# Altium schematic symbol library NEXPERIA_IP4234CZ6.SchLib: 1 symbol
Pins are listed as number, name and electrical type; pins without a type are passive.

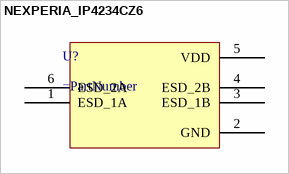
[diagram p0: symbol NEXPERIA_IP4234CZ6]

## NEXPERIA_IP4234CZ6
designator U?
pins: 1 ESD_1A, 2 GND, 3 ESD_1B, 4 ESD_2B, 5 VDD, 6 ESD_2A